# Altium integrated library Texas Instruments Power Management PWM Controller.IntLib: 1227 symbols (part 14 of 49)
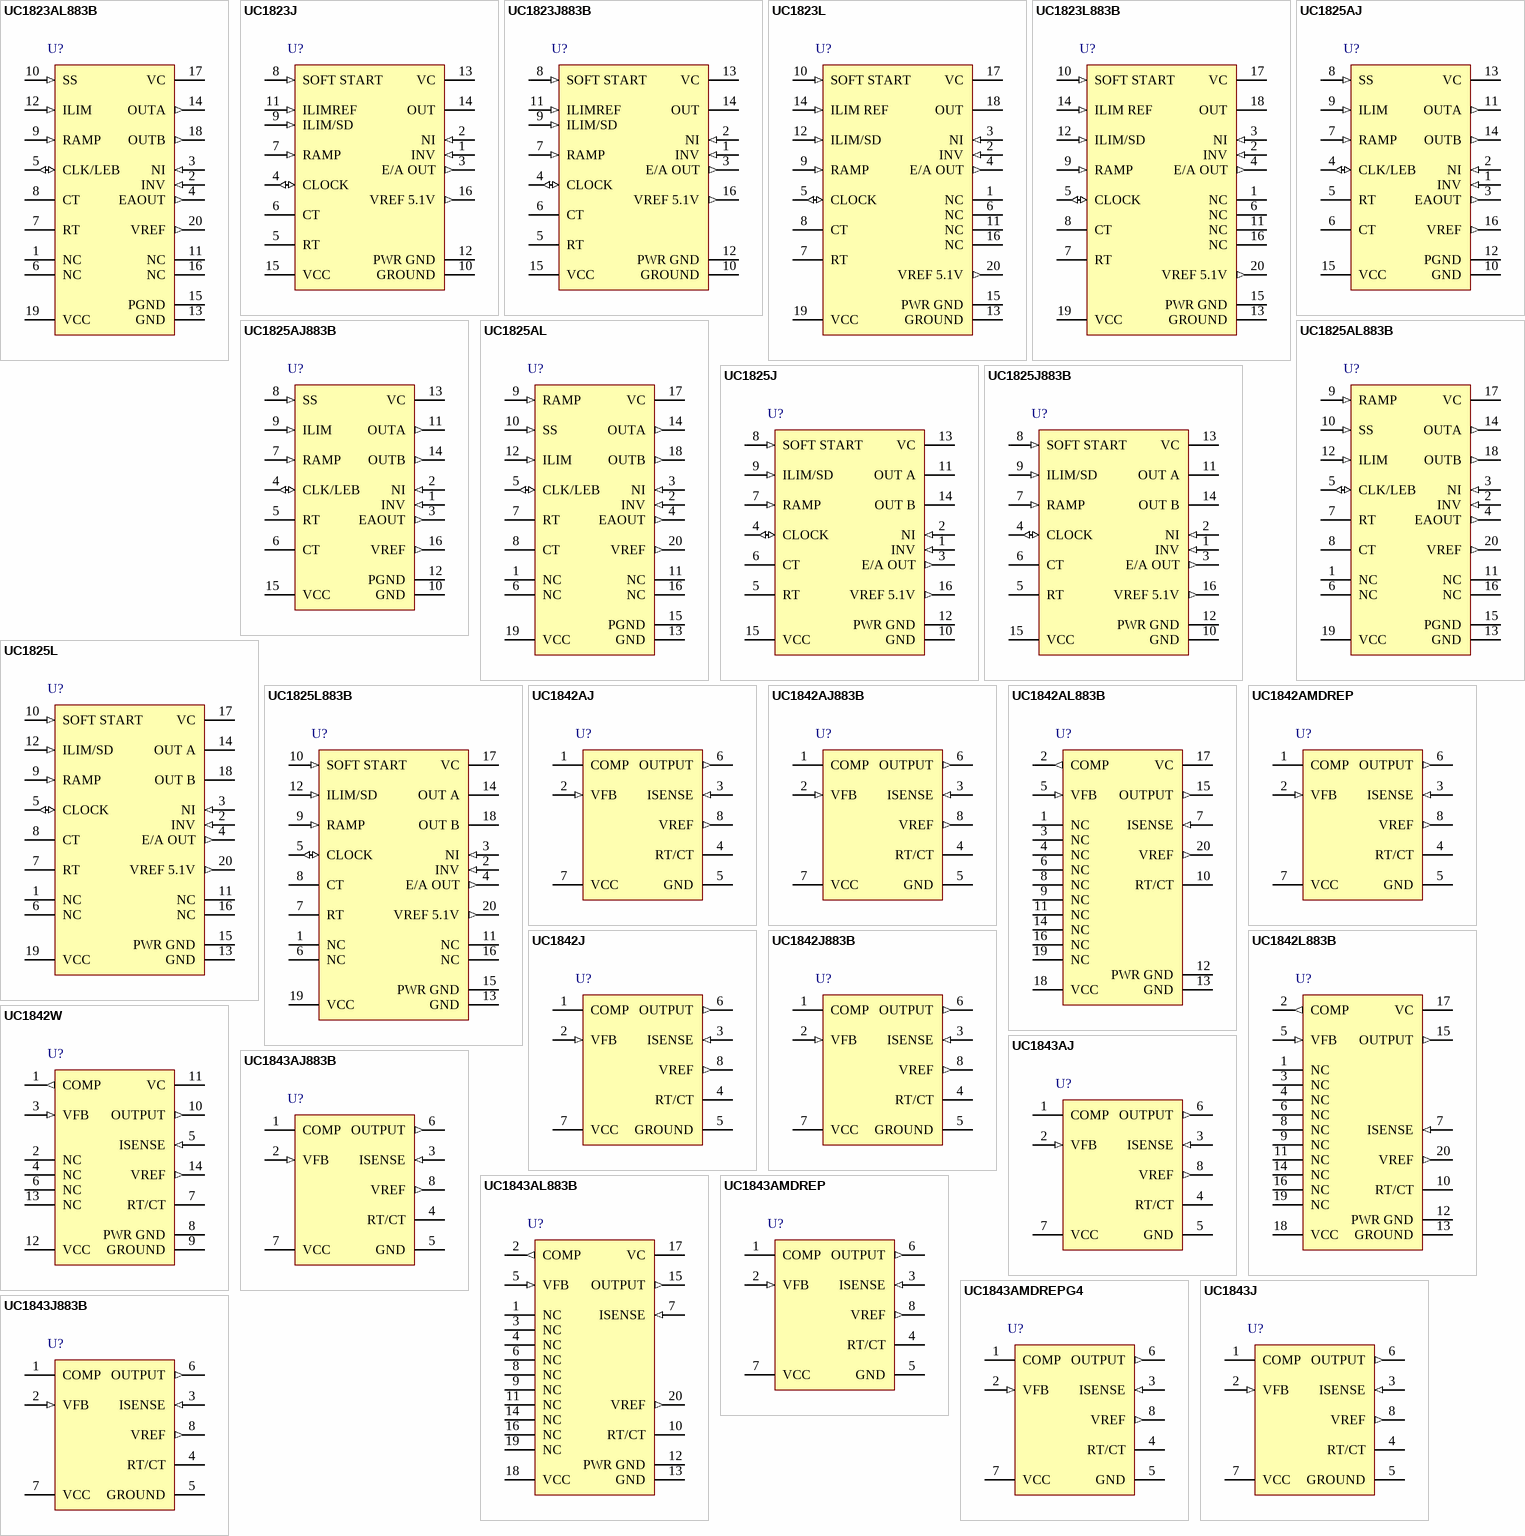
[diagram p56: symbols UC1823AL883B to UC1843J883B]

## UC1825AL
designator U?
High Speed PWM Controller with Current Control, 50 % Duty Cycle, -55 to +125 degC, 20-pin LCCC (FK); PartNumber: UC1825AL; Manufacturer: Texas Instruments; Duty Cycle(Max)(%): 50; Eco-Plan: TBD; Frequency(Max)(kHz): 1000; Rating: Military; Regulated Outputs(#): 2; Topology: Boost, Flyback, Forward, Full-Bridge, Half-Bridge, Push-Pull; UVLO Thresholds On/Off(V): 16/10; DatasheetVersion: SLUS334E; PackageVersion: revD, Jan-2011; PackageReference: FK20; PackageDescription: 20-Pin Leadless Ceramic Chip Carrier, 1.27 mm Pitch; Control Method: Current; SubFamily: PWM Controller; Mounting Technology: Surface Mount; Code_JEDEC: MS-004; ComponentLink1Description: Datasheet; ComponentLink1URL: http://www.ti.com/general/docs/lit/getliterature.tsp?genericPartNumber=UC1825A&fileType=pdf
footprint FK20_N (Leadless Chip Carrier, 20-Leads, Body 8.9x8.9mm, Pitch 1.27mm, IPC Medium Density)
footprint FK20_L (Leadless Chip Carrier, 20-Leads, Body 8.9x8.9mm, Pitch 1.27mm, IPC High Density)
footprint FK20_M (Leadless Chip Carrier, 20-Leads, Body 8.9x8.9mm, Pitch 1.27mm, IPC Low Density)
pins: 1 NC "No Connection", 2 INV (in) "Inverting input to the error amplifier", 3 NI (in) "Non-inverting input to the error amplifier", 4 EAOUT (out) "Output of the error amplifier for compensation", 5 CLK/LEB (io) "Output of the internal oscillator", 6 NC "No Connection", 7 RT "Timing resistor connection pin for oscillator frequency programming", 8 CT "Timing capacitor connection pin for oscillator frequency programming. The timing capacitor should be connected to the device ground using minimal trace length.", 9 RAMP (in) "Non-inverting input to the PWM comparator with 1.25-V internal input offset. In voltage mode operation, this serves as the input voltage feed-forward function by using the CT ramp. In peak current mode operation, this serves (See Datasheet)", 10 SS (in) "Soft-start input pin which also doubles as the maximum duty cycle clamp.", 11 NC "No Connection", 12 ILIM (in) "Input to the current limit comparator", 13 GND (power) "Analog ground return pin", 14 OUTA (out) "High current totem pole output A of the on-chip drive stage.", 15 PGND (power) "Ground return pin for the output driver stage", 16 NC "No Connection", 17 VC (power) "Power supply pin for the output stage. This pin should be bypassed with a 0.1-uF monolithic ceramic low ESL capacitor with minimal trace lengths.", 18 OUTB (out) "High current totem pole output B of the on-chip drive stage.", 19 VCC (power) "Power supply pin for the device. This pin should be bypassed with a 0.1-uF monolithic ceramic low ESL capacitor with minimal trace lengths", 20 VREF (out) "5.1-V reference. For stability, the reference should be bypassed with a 0.1-uF monolithic ceramic low ESL capacitor and minimal trace length to the ground plane."

## UC1825AL883B
designator U?
High Speed PWM Controller with Current Control, 50 % Duty Cycle, -55 to +125 degC, 20-pin LCCC (FK); PartNumber: UC1825AL883B; Manufacturer: Texas Instruments; Duty Cycle(Max)(%): 50; Eco-Plan: TBD; Frequency(Max)(kHz): 1000; Rating: Military; Regulated Outputs(#): 2; Topology: Boost, Flyback, Forward, Full-Bridge, Half-Bridge, Push-Pull; UVLO Thresholds On/Off(V): 16/10; DatasheetVersion: SLUS334E; PackageVersion: revD, Jan-2011; PackageReference: FK20; PackageDescription: 20-Pin Leadless Ceramic Chip Carrier, 1.27 mm Pitch; Control Method: Current; SubFamily: PWM Controller; Mounting Technology: Surface Mount; Code_JEDEC: MS-004; ComponentLink1Description: Datasheet; ComponentLink1URL: http://www.ti.com/general/docs/lit/getliterature.tsp?genericPartNumber=UC1825A&fileType=pdf
footprint FK20_N (Leadless Chip Carrier, 20-Leads, Body 8.9x8.9mm, Pitch 1.27mm, IPC Medium Density)
footprint FK20_L (Leadless Chip Carrier, 20-Leads, Body 8.9x8.9mm, Pitch 1.27mm, IPC High Density)
footprint FK20_M (Leadless Chip Carrier, 20-Leads, Body 8.9x8.9mm, Pitch 1.27mm, IPC Low Density)
pins: 1 NC "No Connection", 2 INV (in) "Inverting input to the error amplifier", 3 NI (in) "Non-inverting input to the error amplifier", 4 EAOUT (out) "Output of the error amplifier for compensation", 5 CLK/LEB (io) "Output of the internal oscillator", 6 NC "No Connection", 7 RT "Timing resistor connection pin for oscillator frequency programming", 8 CT "Timing capacitor connection pin for oscillator frequency programming. The timing capacitor should be connected to the device ground using minimal trace length.", 9 RAMP (in) "Non-inverting input to the PWM comparator with 1.25-V internal input offset. In voltage mode operation, this serves as the input voltage feed-forward function by using the CT ramp. In peak current mode operation, this serves (See Datasheet)", 10 SS (in) "Soft-start input pin which also doubles as the maximum duty cycle clamp.", 11 NC "No Connection", 12 ILIM (in) "Input to the current limit comparator", 13 GND (power) "Analog ground return pin", 14 OUTA (out) "High current totem pole output A of the on-chip drive stage.", 15 PGND (power) "Ground return pin for the output driver stage", 16 NC "No Connection", 17 VC (power) "Power supply pin for the output stage. This pin should be bypassed with a 0.1-uF monolithic ceramic low ESL capacitor with minimal trace lengths.", 18 OUTB (out) "High current totem pole output B of the on-chip drive stage.", 19 VCC (power) "Power supply pin for the device. This pin should be bypassed with a 0.1-uF monolithic ceramic low ESL capacitor with minimal trace lengths", 20 VREF (out) "5.1-V reference. For stability, the reference should be bypassed with a 0.1-uF monolithic ceramic low ESL capacitor and minimal trace length to the ground plane."

## UC1825J
designator U?
High Speed PWM Controller with Current Control, 50 % Duty Cycle, -55 to +125 degC, 16-pin CDIP (J); PartNumber: UC1825J; Manufacturer: Texas Instruments; Duty Cycle(Max)(%): 50; Eco-Plan: TBD; Frequency(Max)(kHz): 1000; Rating: Military; Regulated Outputs(#): 2; Topology: Boost, Flyback, Forward, Full-Bridge, Half-Bridge, Push-Pull; UVLO Thresholds On/Off(V): 9.2/8.4; DatasheetVersion: SLUS235A; PackageVersion: revF, Mar-2003; PackageReference: J16; PackageDescription: 16-Pin, Ceramic Dual In-Line Package, Row Spacing 7.62 mm, Pitch 2.54 mm; Control Method: Current; SubFamily: PWM Controller; Mounting Technology: Through Hole; ComponentLink1Description: Datasheet; ComponentLink1URL: http://www.ti.com/general/docs/lit/getliterature.tsp?genericPartNumber=UC1825&fileType=pdf
footprint J16 (DIP, 16-Leads, Row Spacing 7.62mm, Pitch 2.54mm, Body 21.3x6.9mm)
pins: 1 INV (in), 2 NI (in), 3 E/A OUT (out), 4 CLOCK (io), 5 RT, 6 CT, 7 RAMP (in), 8 SOFT START (in), 9 ILIM/SD (in), 10 GND (power), 11 OUT A (hiz), 12 PWR GND (power), 13 VC (power), 14 OUT B (hiz), 15 VCC (power), 16 VREF 5.1V (out)

## UC1825J883B
designator U?
High Speed PWM Controller with Current Control, 50 % Duty Cycle, -55 to +125 degC, 16-pin CDIP (J); PartNumber: UC1825J883B; Manufacturer: Texas Instruments; Duty Cycle(Max)(%): 50; Eco-Plan: TBD; Frequency(Max)(kHz): 1000; Rating: Military; Regulated Outputs(#): 2; Topology: Boost, Flyback, Forward, Full-Bridge, Half-Bridge, Push-Pull; UVLO Thresholds On/Off(V): 9.2/8.4; DatasheetVersion: SLUS235A; PackageVersion: revF, Mar-2003; PackageReference: J16; PackageDescription: 16-Pin, Ceramic Dual In-Line Package, Row Spacing 7.62 mm, Pitch 2.54 mm; Control Method: Current; SubFamily: PWM Controller; Mounting Technology: Through Hole; ComponentLink1Description: Datasheet; ComponentLink1URL: http://www.ti.com/general/docs/lit/getliterature.tsp?genericPartNumber=UC1825&fileType=pdf
footprint J16 (DIP, 16-Leads, Row Spacing 7.62mm, Pitch 2.54mm, Body 21.3x6.9mm)
pins: 1 INV (in), 2 NI (in), 3 E/A OUT (out), 4 CLOCK (io), 5 RT, 6 CT, 7 RAMP (in), 8 SOFT START (in), 9 ILIM/SD (in), 10 GND (power), 11 OUT A (hiz), 12 PWR GND (power), 13 VC (power), 14 OUT B (hiz), 15 VCC (power), 16 VREF 5.1V (out)

## UC1825L
designator U?
High Speed PWM Controller with Current Control, 50 % Duty Cycle, -55 to +125 degC, 20-pin LCCC (FK); PartNumber: UC1825L; Manufacturer: Texas Instruments; Duty Cycle(Max)(%): 50; Eco-Plan: TBD; Frequency(Max)(kHz): 1000; Rating: Military; Regulated Outputs(#): 2; Topology: Boost, Flyback, Forward, Full-Bridge, Half-Bridge, Push-Pull; UVLO Thresholds On/Off(V): 9.2/8.4; DatasheetVersion: SLUS235A; PackageVersion: revD, Jan-2011; PackageReference: FK20; PackageDescription: 20-Pin Leadless Ceramic Chip Carrier, 1.27 mm Pitch; Control Method: Current; SubFamily: PWM Controller; Mounting Technology: Surface Mount; Code_JEDEC: MS-004; ComponentLink1Description: Datasheet; ComponentLink1URL: http://www.ti.com/general/docs/lit/getliterature.tsp?genericPartNumber=UC1825&fileType=pdf
footprint FK20_N (Leadless Chip Carrier, 20-Leads, Body 8.9x8.9mm, Pitch 1.27mm, IPC Medium Density)
footprint FK20_L (Leadless Chip Carrier, 20-Leads, Body 8.9x8.9mm, Pitch 1.27mm, IPC High Density)
footprint FK20_M (Leadless Chip Carrier, 20-Leads, Body 8.9x8.9mm, Pitch 1.27mm, IPC Low Density)
pins: 1 NC, 2 INV (in), 3 NI (in), 4 E/A OUT (out), 5 CLOCK (io), 6 NC, 7 RT, 8 CT, 9 RAMP (in), 10 SOFT START (in), 11 NC, 12 ILIM/SD (in), 13 GND (power), 14 OUT A (hiz), 15 PWR GND (power), 16 NC, 17 VC (power), 18 OUT B (hiz), 19 VCC (power), 20 VREF 5.1V (out)

## UC1825L883B
designator U?
High Speed PWM Controller with Current Control, 50 % Duty Cycle, -55 to +125 degC, 20-pin LCCC (FK); PartNumber: UC1825L883B; Manufacturer: Texas Instruments; Duty Cycle(Max)(%): 50; Eco-Plan: TBD; Frequency(Max)(kHz): 1000; Rating: Military; Regulated Outputs(#): 2; Topology: Boost, Flyback, Forward, Full-Bridge, Half-Bridge, Push-Pull; UVLO Thresholds On/Off(V): 9.2/8.4; DatasheetVersion: SLUS235A; PackageVersion: revD, Jan-2011; PackageReference: FK20; PackageDescription: 20-Pin Leadless Ceramic Chip Carrier, 1.27 mm Pitch; Control Method: Current; SubFamily: PWM Controller; Mounting Technology: Surface Mount; Code_JEDEC: MS-004; ComponentLink1Description: Datasheet; ComponentLink1URL: http://www.ti.com/general/docs/lit/getliterature.tsp?genericPartNumber=UC1825&fileType=pdf
footprint FK20_N (Leadless Chip Carrier, 20-Leads, Body 8.9x8.9mm, Pitch 1.27mm, IPC Medium Density)
footprint FK20_L (Leadless Chip Carrier, 20-Leads, Body 8.9x8.9mm, Pitch 1.27mm, IPC High Density)
footprint FK20_M (Leadless Chip Carrier, 20-Leads, Body 8.9x8.9mm, Pitch 1.27mm, IPC Low Density)
pins: 1 NC, 2 INV (in), 3 NI (in), 4 E/A OUT (out), 5 CLOCK (io), 6 NC, 7 RT, 8 CT, 9 RAMP (in), 10 SOFT START (in), 11 NC, 12 ILIM/SD (in), 13 GND (power), 14 OUT A (hiz), 15 PWR GND (power), 16 NC, 17 VC (power), 18 OUT B (hiz), 19 VCC (power), 20 VREF 5.1V (out)

## UC1842AJ
designator U?
PWM Controller with Current Control, 100 % Duty Cycle, -55 to +125 degC, 8-pin CDIP (JG); PartNumber: UC1842AJ; Manufacturer: Texas Instruments; Duty Cycle(Max)(%): 100; Eco-Plan: TBD; Frequency(Max)(kHz): 450; Rating: Military; Regulated Outputs(#): 1; Topology: Boost, Flyback, Forward; UVLO Thresholds On/Off(V): 16/10; DatasheetVersion: SLUS224C; PackageVersion: revC, Aug-1996; PackageReference: JG8; PackageDescription: 8-Pin Ceramic Dual-In-Line Package, Row Spacing 7.62 mm, Pitch 2.54 mm; Control Method: Current; SubFamily: PWM Controller; Mounting Technology: Through Hole; ComponentLink1Description: Datasheet; ComponentLink1URL: http://www.ti.com/general/docs/lit/getliterature.tsp?genericPartNumber=UC1842A&fileType=pdf
footprint JG8 (DIP, 8-Leads, Row Spacing 7.62mm, Pitch 2.54mm, Body 9.6x6.7mm)
pins: 1 COMP, 2 VFB (in), 3 ISENSE (in), 4 RT/CT, 5 GND (power), 6 OUTPUT (out), 7 VCC (power), 8 VREF (out)

## UC1842AJ883B
designator U?
PWM Controller with Current Control, 100 % Duty Cycle, -55 to +125 degC, 8-pin CDIP (JG); PartNumber: UC1842AJ883B; Manufacturer: Texas Instruments; Duty Cycle(Max)(%): 100; Eco-Plan: TBD; Frequency(Max)(kHz): 450; Rating: Military; Regulated Outputs(#): 1; Topology: Boost, Flyback, Forward; UVLO Thresholds On/Off(V): 16/10; DatasheetVersion: SLUS224C; PackageVersion: revC, Aug-1996; PackageReference: JG8; PackageDescription: 8-Pin Ceramic Dual-In-Line Package, Row Spacing 7.62 mm, Pitch 2.54 mm; Control Method: Current; SubFamily: PWM Controller; Mounting Technology: Through Hole; ComponentLink1Description: Datasheet; ComponentLink1URL: http://www.ti.com/general/docs/lit/getliterature.tsp?genericPartNumber=UC1842A&fileType=pdf
footprint JG8 (DIP, 8-Leads, Row Spacing 7.62mm, Pitch 2.54mm, Body 9.6x6.7mm)
pins: 1 COMP, 2 VFB (in), 3 ISENSE (in), 4 RT/CT, 5 GND (power), 6 OUTPUT (out), 7 VCC (power), 8 VREF (out)

## UC1842AL883B
designator U?
PWM Controller with Current Control, 100 % Duty Cycle, -55 to +125 degC, 20-pin LCCC (FK); PartNumber: UC1842AL883B; Manufacturer: Texas Instruments; Duty Cycle(Max)(%): 100; Eco-Plan: TBD; Frequency(Max)(kHz): 450; Rating: Military; Regulated Outputs(#): 1; Topology: Boost, Flyback, Forward; UVLO Thresholds On/Off(V): 16/10; DatasheetVersion: SLUS224C; PackageVersion: revD, Jan-2011; PackageReference: FK20; PackageDescription: 20-Pin Leadless Ceramic Chip Carrier, 1.27 mm Pitch; Control Method: Current; SubFamily: PWM Controller; Mounting Technology: Surface Mount; Code_JEDEC: MS-004; ComponentLink1Description: Datasheet; ComponentLink1URL: http://www.ti.com/general/docs/lit/getliterature.tsp?genericPartNumber=UC1842A&fileType=pdf
footprint FK20_N (Leadless Chip Carrier, 20-Leads, Body 8.9x8.9mm, Pitch 1.27mm, IPC Medium Density)
footprint FK20_L (Leadless Chip Carrier, 20-Leads, Body 8.9x8.9mm, Pitch 1.27mm, IPC High Density)
footprint FK20_M (Leadless Chip Carrier, 20-Leads, Body 8.9x8.9mm, Pitch 1.27mm, IPC Low Density)
pins: 1 NC, 2 COMP (out), 3 NC, 4 NC, 5 VFB (in), 6 NC, 7 ISENSE (in), 8 NC, 9 NC, 10 RT/CT, 11 NC, 12 PWR GND (power), 13 GND (power), 14 NC, 15 OUTPUT (out), 16 NC, 17 VC (power), 18 VCC (power), 19 NC, 20 VREF (out)

## UC1842AMDREP
designator U?
PWM Controller with Current Control, 100 % Duty Cycle, -55 to +125 degC, 8-pin SOIC (D), Green (RoHS & no Sb/Br); PartNumber: UC1842AMDREP; Manufacturer: Texas Instruments; Duty Cycle(Max)(%): 100; Frequency(Max)(kHz): 500; Rating: HiRel Enhanced Product; Regulated Outputs(#): 1; UVLO Thresholds On/Off(V): 16/10; DatasheetVersion: SGLS134C; PackageVersion: revM, Jun-2011; PackageReference: D8; PackageDescription: 8-Pin Plastic Small Outline Integrated Circuit, 4.9 x 3.9 mm, Pitch 1.27 mm Pitch; Supplier 1: Digi-Key; Supplier Part Number 1: 296-18181-2-ND; Supplier 2: Digi-Key; Supplier Part Number 2: 296-18181-1-ND; Supplier 3: Digi-Key; Supplier Part Number 3: 296-18181-6-ND; Supplier 4: Farnell; Supplier Part Number 4: 1755514; Supplier 5: Newark; Supplier Part Number 5: 46M1387; Supplier 6: Mouser; Supplier Part Number 6: 595-UC1842AMDREP; Control Method: Current; Eco-Plan: Green (RoHS & no Sb/Br); SubFamily: PWM Controller; Mounting Technology: Surface Mount; Code_JEDEC: MS-012AA; ComponentLink1Description: Datasheet; ComponentLink1URL: http://www.ti.com/general/docs/lit/getliterature.tsp?genericPartNumber=UC1842A-EP&fileType=pdf
footprint D8_N (SOIC, 8-Leads, Body 4.9x3.9mm, Pitch 1.27mm, IPC Medium Density)
footprint D8_L (SOIC, 8-Leads, Body 4.9x3.9mm, Pitch 1.27mm, IPC High Density)
footprint D8_M (SOIC, 8-Leads, Body 4.9x3.9mm, Pitch 1.27mm, IPC Low Density)
pins: 1 COMP, 2 VFB (in), 3 ISENSE (in), 4 RT/CT, 5 GND (power), 6 OUTPUT (out), 7 VCC (power), 8 VREF (out)

## UC1842J
designator U?
PWM Controller with Current Control, 100 % Duty Cycle, -55 to +125 degC, 8-pin CDIP (JG); PartNumber: UC1842J; Manufacturer: Texas Instruments; Duty Cycle(Max)(%): 100; Eco-Plan: TBD; Frequency(Max)(kHz): 450; Rating: Military; Regulated Outputs(#): 1; Topology: Boost, Flyback, Forward; UVLO Thresholds On/Off(V): 16/10; DatasheetVersion: SLUS223C; PackageVersion: revC, Aug-1996; PackageReference: JG8; PackageDescription: 8-Pin Ceramic Dual-In-Line Package, Row Spacing 7.62 mm, Pitch 2.54 mm; Control Method: Current; SubFamily: PWM Controller; Mounting Technology: Through Hole; ComponentLink1Description: Datasheet; ComponentLink1URL: http://www.ti.com/general/docs/lit/getliterature.tsp?genericPartNumber=UC1842&fileType=pdf
footprint JG8 (DIP, 8-Leads, Row Spacing 7.62mm, Pitch 2.54mm, Body 9.6x6.7mm)
pins: 1 COMP, 2 VFB (in), 3 ISENSE (in), 4 RT/CT, 5 GROUND (power), 6 OUTPUT (out), 7 VCC (power), 8 VREF (out)

## UC1842J883B
designator U?
PWM Controller with Current Control, 100 % Duty Cycle, -55 to +125 degC, 8-pin CDIP (JG); PartNumber: UC1842J883B; Manufacturer: Texas Instruments; Duty Cycle(Max)(%): 100; Eco-Plan: TBD; Frequency(Max)(kHz): 450; Rating: Military; Regulated Outputs(#): 1; Topology: Boost, Flyback, Forward; UVLO Thresholds On/Off(V): 16/10; DatasheetVersion: SLUS223C; PackageVersion: revC, Aug-1996; PackageReference: JG8; PackageDescription: 8-Pin Ceramic Dual-In-Line Package, Row Spacing 7.62 mm, Pitch 2.54 mm; Control Method: Current; SubFamily: PWM Controller; Mounting Technology: Through Hole; ComponentLink1Description: Datasheet; ComponentLink1URL: http://www.ti.com/general/docs/lit/getliterature.tsp?genericPartNumber=UC1842&fileType=pdf
footprint JG8 (DIP, 8-Leads, Row Spacing 7.62mm, Pitch 2.54mm, Body 9.6x6.7mm)
pins: 1 COMP, 2 VFB (in), 3 ISENSE (in), 4 RT/CT, 5 GROUND (power), 6 OUTPUT (out), 7 VCC (power), 8 VREF (out)

## UC1842L883B
designator U?
PWM Controller with Current Control, 100 % Duty Cycle, -55 to +125 degC, 20-pin LCCC (FK); PartNumber: UC1842L883B; Manufacturer: Texas Instruments; Duty Cycle(Max)(%): 100; Eco-Plan: TBD; Frequency(Max)(kHz): 450; Rating: Military; Regulated Outputs(#): 1; Topology: Boost, Flyback, Forward; UVLO Thresholds On/Off(V): 16/10; DatasheetVersion: SLUS223C; PackageVersion: revD, Jan-2011; PackageReference: FK20; PackageDescription: 20-Pin Leadless Ceramic Chip Carrier, 1.27 mm Pitch; Control Method: Current; SubFamily: PWM Controller; Mounting Technology: Surface Mount; Code_JEDEC: MS-004; ComponentLink1Description: Datasheet; ComponentLink1URL: http://www.ti.com/general/docs/lit/getliterature.tsp?genericPartNumber=UC1842&fileType=pdf
footprint FK20_N (Leadless Chip Carrier, 20-Leads, Body 8.9x8.9mm, Pitch 1.27mm, IPC Medium Density)
footprint FK20_L (Leadless Chip Carrier, 20-Leads, Body 8.9x8.9mm, Pitch 1.27mm, IPC High Density)
footprint FK20_M (Leadless Chip Carrier, 20-Leads, Body 8.9x8.9mm, Pitch 1.27mm, IPC Low Density)
pins: 1 NC, 2 COMP (out), 3 NC, 4 NC, 5 VFB (in), 6 NC, 7 ISENSE (in), 8 NC, 9 NC, 10 RT/CT, 11 NC, 12 PWR GND (power), 13 GROUND (power), 14 NC, 15 OUTPUT (out), 16 NC, 17 VC (power), 18 VCC (power), 19 NC, 20 VREF (out)

## UC1842W
designator U?
PWM Controller with Current Control, 100 % Duty Cycle, -55 to +125 degC, 14-pin CFP (W); PartNumber: UC1842W; Manufacturer: Texas Instruments; Duty Cycle(Max)(%): 100; Eco-Plan: TBD; Frequency(Max)(kHz): 450; Rating: Military; Regulated Outputs(#): 1; Topology: Boost, Flyback, Forward; UVLO Thresholds On/Off(V): 16/10; DatasheetVersion: SLUS223C; PackageVersion: revD, Jul-2003; PackageReference: W14; PackageDescription: 14-Lead Ceramic Dual Flatpack, Body 9.9 x 6.6 mm (LxW max), Pitch 1.27 mm; Control Method: Current; SubFamily: PWM Controller; Mounting Technology: Surface Mount; Code_JEDEC: MO-092AB; ComponentLink1Description: Datasheet; ComponentLink1URL: http://www.ti.com/general/docs/lit/getliterature.tsp?genericPartNumber=UC1842&fileType=pdf
footprint W14 (DFP, 14 Leads, Body 9.2x6.3mm, Pitch 1.27mm, Gullwing Leadform)
pins: 1 COMP (out), 2 NC, 3 VFB (in), 4 NC, 5 ISENSE (in), 6 NC, 7 RT/CT, 8 PWR GND (power), 9 GROUND (power), 10 OUTPUT (out), 11 VC (power), 12 VCC (power), 13 NC, 14 VREF (out)

## UC1843AJ
designator U?
PWM Controller with Current Control, 100 % Duty Cycle, -55 to +125 degC, 8-pin CDIP (JG); PartNumber: UC1843AJ; Manufacturer: Texas Instruments; Duty Cycle(Max)(%): 100; Eco-Plan: TBD; Frequency(Max)(kHz): 450; Rating: Military; Regulated Outputs(#): 1; Topology: Boost, Flyback, Forward; UVLO Thresholds On/Off(V): 8.4/7.6; DatasheetVersion: SLUS224C; PackageVersion: revC, Aug-1996; PackageReference: JG8; PackageDescription: 8-Pin Ceramic Dual-In-Line Package, Row Spacing 7.62 mm, Pitch 2.54 mm; Control Method: Current; SubFamily: PWM Controller; Mounting Technology: Through Hole; ComponentLink1Description: Datasheet; ComponentLink1URL: http://www.ti.com/general/docs/lit/getliterature.tsp?genericPartNumber=UC1843A&fileType=pdf
footprint JG8 (DIP, 8-Leads, Row Spacing 7.62mm, Pitch 2.54mm, Body 9.6x6.7mm)
pins: 1 COMP, 2 VFB (in), 3 ISENSE (in), 4 RT/CT, 5 GND (power), 6 OUTPUT (out), 7 VCC (power), 8 VREF (out)

## UC1843AJ883B
designator U?
PWM Controller with Current Control, 100 % Duty Cycle, -55 to +125 degC, 8-pin CDIP (JG); PartNumber: UC1843AJ883B; Manufacturer: Texas Instruments; Duty Cycle(Max)(%): 100; Eco-Plan: TBD; Frequency(Max)(kHz): 450; Rating: Military; Regulated Outputs(#): 1; Topology: Boost, Flyback, Forward; UVLO Thresholds On/Off(V): 8.4/7.6; DatasheetVersion: SLUS224C; PackageVersion: revC, Aug-1996; PackageReference: JG8; PackageDescription: 8-Pin Ceramic Dual-In-Line Package, Row Spacing 7.62 mm, Pitch 2.54 mm; Control Method: Current; SubFamily: PWM Controller; Mounting Technology: Through Hole; ComponentLink1Description: Datasheet; ComponentLink1URL: http://www.ti.com/general/docs/lit/getliterature.tsp?genericPartNumber=UC1843A&fileType=pdf
footprint JG8 (DIP, 8-Leads, Row Spacing 7.62mm, Pitch 2.54mm, Body 9.6x6.7mm)
pins: 1 COMP, 2 VFB (in), 3 ISENSE (in), 4 RT/CT, 5 GND (power), 6 OUTPUT (out), 7 VCC (power), 8 VREF (out)

## UC1843AL883B
designator U?
PWM Controller with Current Control, 100 % Duty Cycle, -55 to +125 degC, 20-pin LCCC (FK); PartNumber: UC1843AL883B; Manufacturer: Texas Instruments; Duty Cycle(Max)(%): 100; Eco-Plan: TBD; Frequency(Max)(kHz): 450; Rating: Military; Regulated Outputs(#): 1; Topology: Boost, Flyback, Forward; UVLO Thresholds On/Off(V): 8.4/7.6; DatasheetVersion: SLUS224C; PackageVersion: revD, Jan-2011; PackageReference: FK20; PackageDescription: 20-Pin Leadless Ceramic Chip Carrier, 1.27 mm Pitch; Control Method: Current; SubFamily: PWM Controller; Mounting Technology: Surface Mount; Code_JEDEC: MS-004; ComponentLink1Description: Datasheet; ComponentLink1URL: http://www.ti.com/general/docs/lit/getliterature.tsp?genericPartNumber=UC1843A&fileType=pdf
footprint FK20_N (Leadless Chip Carrier, 20-Leads, Body 8.9x8.9mm, Pitch 1.27mm, IPC Medium Density)
footprint FK20_L (Leadless Chip Carrier, 20-Leads, Body 8.9x8.9mm, Pitch 1.27mm, IPC High Density)
footprint FK20_M (Leadless Chip Carrier, 20-Leads, Body 8.9x8.9mm, Pitch 1.27mm, IPC Low Density)
pins: 1 NC, 2 COMP (out), 3 NC, 4 NC, 5 VFB (in), 6 NC, 7 ISENSE (in), 8 NC, 9 NC, 10 RT/CT, 11 NC, 12 PWR GND (power), 13 GND (power), 14 NC, 15 OUTPUT (out), 16 NC, 17 VC (power), 18 VCC (power), 19 NC, 20 VREF (out)

## UC1843AMDREP
designator U?
PWM Controller with Current Control, 100 % Duty Cycle, -55 to +125 degC, 8-pin SOIC (D), Green (RoHS & no Sb/Br); PartNumber: UC1843AMDREP; Manufacturer: Texas Instruments; Duty Cycle(Max)(%): 100; Frequency(Max)(kHz): 500; Rating: HiRel Enhanced Product; Regulated Outputs(#): 1; UVLO Thresholds On/Off(V): 8.5/7.9; DatasheetVersion: SGLS134C; PackageVersion: revM, Jun-2011; PackageReference: D8; PackageDescription: 8-Pin Plastic Small Outline Integrated Circuit, 4.9 x 3.9 mm, Pitch 1.27 mm Pitch; Supplier 1: Arrow; Supplier Part Number 1: 31966364S6768761N2415; Supplier 2: Digi-Key; Supplier Part Number 2: 296-18182-2-ND; Supplier 3: Digi-Key; Supplier Part Number 3: 296-18182-1-ND; Supplier 4: Digi-Key; Supplier Part Number 4: 296-18182-6-ND; Supplier 5: Newark; Supplier Part Number 5: 46M1388; Supplier 6: Mouser; Supplier Part Number 6: 595-UC1843AMDREP; Control Method: Current; Eco-Plan: Green (RoHS & no Sb/Br); SubFamily: PWM Controller; Mounting Technology: Surface Mount; Code_JEDEC: MS-012AA; ComponentLink1Description: Datasheet; ComponentLink1URL: http://www.ti.com/general/docs/lit/getliterature.tsp?genericPartNumber=UC1843A-EP&fileType=pdf
footprint D8_N (SOIC, 8-Leads, Body 4.9x3.9mm, Pitch 1.27mm, IPC Medium Density)
footprint D8_L (SOIC, 8-Leads, Body 4.9x3.9mm, Pitch 1.27mm, IPC High Density)
footprint D8_M (SOIC, 8-Leads, Body 4.9x3.9mm, Pitch 1.27mm, IPC Low Density)
pins: 1 COMP, 2 VFB (in), 3 ISENSE (in), 4 RT/CT, 5 GND (power), 6 OUTPUT (out), 7 VCC (power), 8 VREF (out)

## UC1843AMDREPG4
designator U?
PWM Controller with Current Control, 100 % Duty Cycle, -55 to +125 degC, 8-pin SOIC (D), Green (RoHS & no Sb/Br); PartNumber: UC1843AMDREPG4; Manufacturer: Texas Instruments; Duty Cycle(Max)(%): 100; Frequency(Max)(kHz): 500; Rating: HiRel Enhanced Product; Regulated Outputs(#): 1; UVLO Thresholds On/Off(V): 8.5/7.9; DatasheetVersion: SGLS134C; PackageVersion: revM, Jun-2011; PackageReference: D8; PackageDescription: 8-Pin Plastic Small Outline Integrated Circuit, 4.9 x 3.9 mm, Pitch 1.27 mm Pitch; Supplier 1: Digi-Key; Supplier Part Number 1: UC1843AMDREPG4-ND; Supplier 2: Mouser; Supplier Part Number 2: 595-UC1843AMDREPG4; Control Method: Current; Eco-Plan: Green (RoHS & no Sb/Br); SubFamily: PWM Controller; Mounting Technology: Surface Mount; Code_JEDEC: MS-012AA; ComponentLink1Description: Datasheet; ComponentLink1URL: http://www.ti.com/general/docs/lit/getliterature.tsp?genericPartNumber=UC1843A-EP&fileType=pdf
footprint D8_N (SOIC, 8-Leads, Body 4.9x3.9mm, Pitch 1.27mm, IPC Medium Density)
footprint D8_L (SOIC, 8-Leads, Body 4.9x3.9mm, Pitch 1.27mm, IPC High Density)
footprint D8_M (SOIC, 8-Leads, Body 4.9x3.9mm, Pitch 1.27mm, IPC Low Density)
pins: 1 COMP, 2 VFB (in), 3 ISENSE (in), 4 RT/CT, 5 GND (power), 6 OUTPUT (out), 7 VCC (power), 8 VREF (out)

## UC1843J
designator U?
PWM Controller with Current Control, 100 % Duty Cycle, -55 to +125 degC, 8-pin CDIP (JG); PartNumber: UC1843J; Manufacturer: Texas Instruments; Duty Cycle(Max)(%): 100; Eco-Plan: TBD; Frequency(Max)(kHz): 450; Rating: Military; Regulated Outputs(#): 1; Topology: Boost, Flyback, Forward; UVLO Thresholds On/Off(V): 8.4/7.6; DatasheetVersion: SLUS223C; PackageVersion: revC, Aug-1996; PackageReference: JG8; PackageDescription: 8-Pin Ceramic Dual-In-Line Package, Row Spacing 7.62 mm, Pitch 2.54 mm; Control Method: Current; SubFamily: PWM Controller; Mounting Technology: Through Hole; ComponentLink1Description: Datasheet; ComponentLink1URL: http://www.ti.com/general/docs/lit/getliterature.tsp?genericPartNumber=UC1843&fileType=pdf
footprint JG8 (DIP, 8-Leads, Row Spacing 7.62mm, Pitch 2.54mm, Body 9.6x6.7mm)
pins: 1 COMP, 2 VFB (in), 3 ISENSE (in), 4 RT/CT, 5 GROUND (power), 6 OUTPUT (out), 7 VCC (power), 8 VREF (out)

## UC1843J883B
designator U?
PWM Controller with Current Control, 100 % Duty Cycle, -55 to +125 degC, 8-pin CDIP (JG); PartNumber: UC1843J883B; Manufacturer: Texas Instruments; Duty Cycle(Max)(%): 100; Eco-Plan: TBD; Frequency(Max)(kHz): 450; Rating: Military; Regulated Outputs(#): 1; Topology: Boost, Flyback, Forward; UVLO Thresholds On/Off(V): 8.4/7.6; DatasheetVersion: SLUS223C; PackageVersion: revC, Aug-1996; PackageReference: JG8; PackageDescription: 8-Pin Ceramic Dual-In-Line Package, Row Spacing 7.62 mm, Pitch 2.54 mm; Control Method: Current; SubFamily: PWM Controller; Mounting Technology: Through Hole; ComponentLink1Description: Datasheet; ComponentLink1URL: http://www.ti.com/general/docs/lit/getliterature.tsp?genericPartNumber=UC1843&fileType=pdf
footprint JG8 (DIP, 8-Leads, Row Spacing 7.62mm, Pitch 2.54mm, Body 9.6x6.7mm)
pins: 1 COMP, 2 VFB (in), 3 ISENSE (in), 4 RT/CT, 5 GROUND (power), 6 OUTPUT (out), 7 VCC (power), 8 VREF (out)

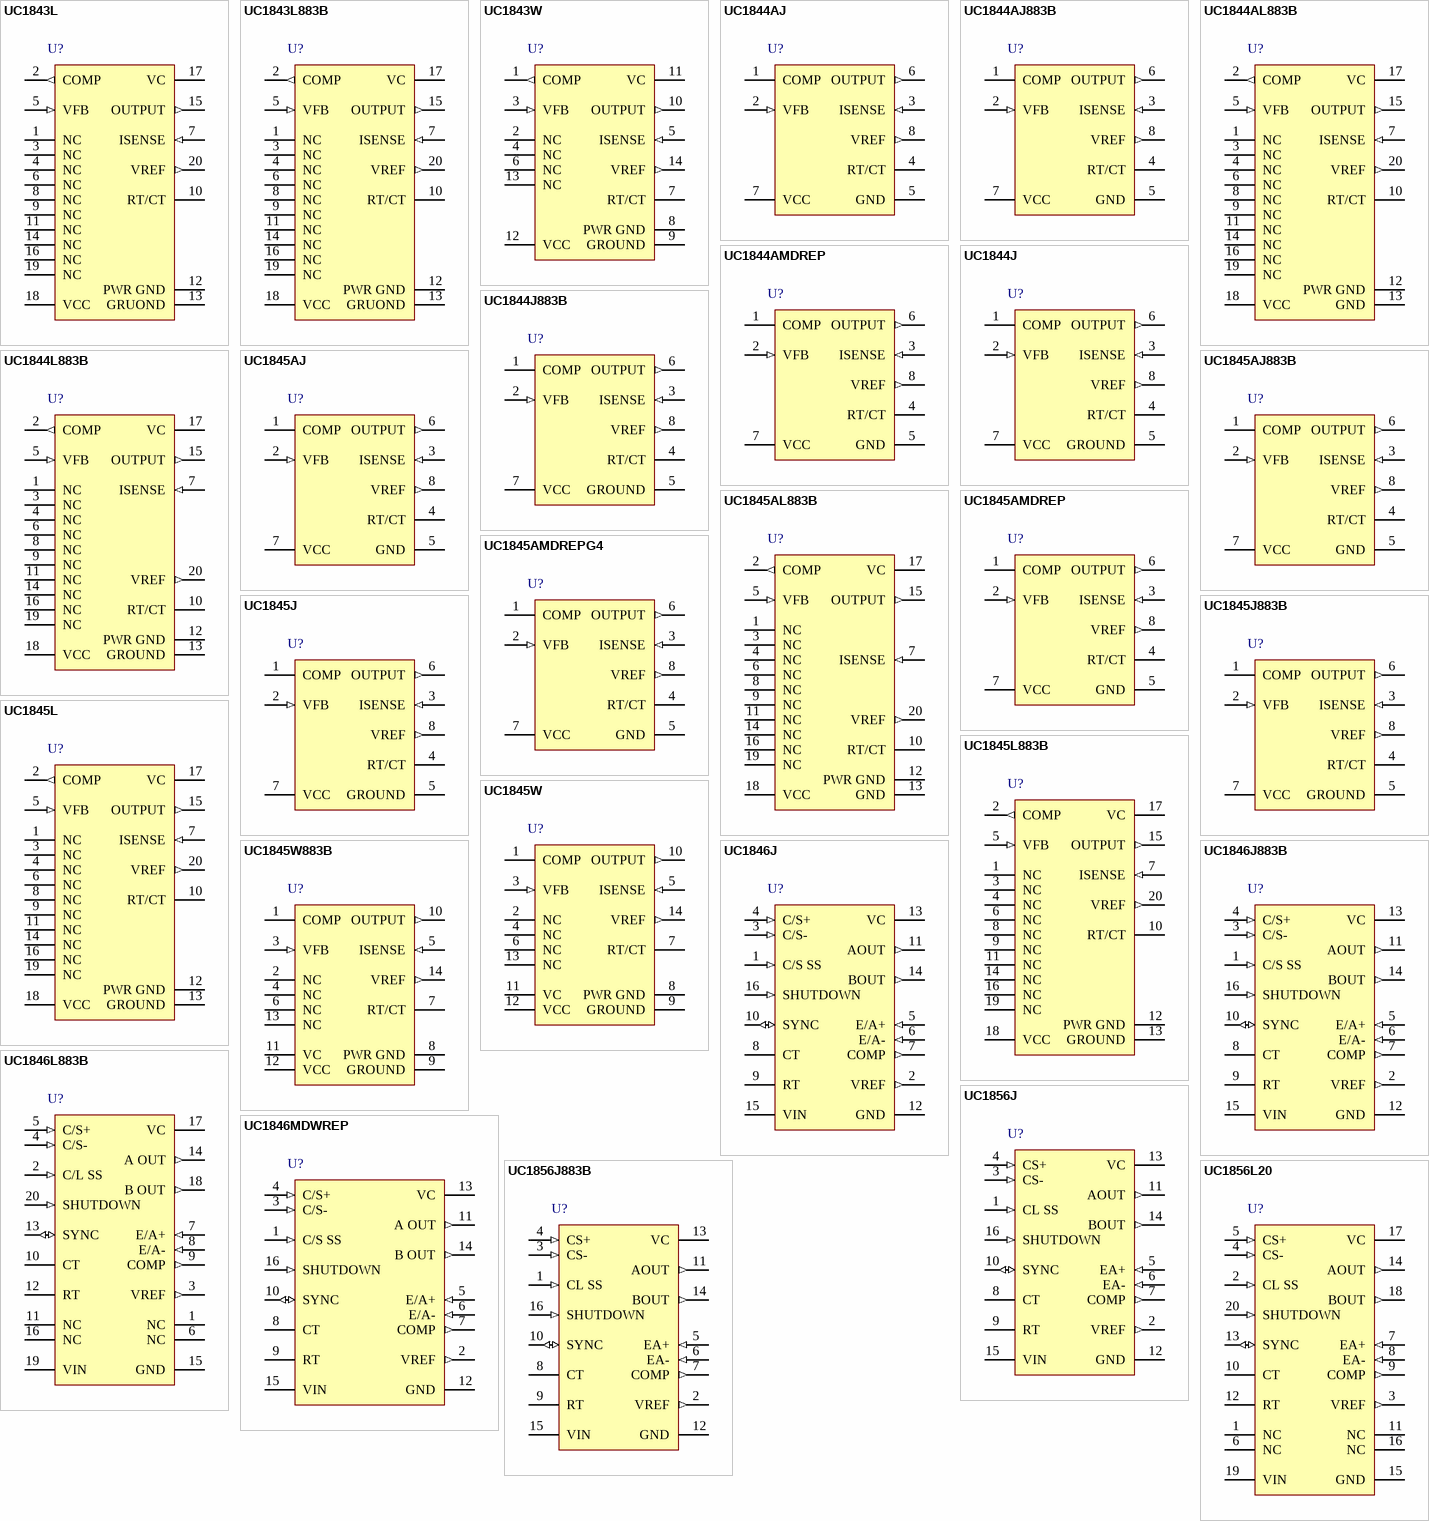
[diagram p15: symbols UC1843L to UC1856L20]

## UC1843L
designator U?
PWM Controller with Current Control, 100 % Duty Cycle, -55 to +125 degC, 20-pin LCCC (FK); PartNumber: UC1843L; Manufacturer: Texas Instruments; Duty Cycle(Max)(%): 100; Eco-Plan: TBD; Frequency(Max)(kHz): 450; Rating: Military; Regulated Outputs(#): 1; Topology: Boost, Flyback, Forward; UVLO Thresholds On/Off(V): 8.4/7.6; DatasheetVersion: SLUS223C; PackageVersion: revD, Jan-2011; PackageReference: FK20; PackageDescription: 20-Pin Leadless Ceramic Chip Carrier, 1.27 mm Pitch; Control Method: Current; SubFamily: PWM Controller; Mounting Technology: Surface Mount; Code_JEDEC: MS-004; ComponentLink1Description: Datasheet; ComponentLink1URL: http://www.ti.com/general/docs/lit/getliterature.tsp?genericPartNumber=UC1843&fileType=pdf
footprint FK20_N (Leadless Chip Carrier, 20-Leads, Body 8.9x8.9mm, Pitch 1.27mm, IPC Medium Density)
footprint FK20_L (Leadless Chip Carrier, 20-Leads, Body 8.9x8.9mm, Pitch 1.27mm, IPC High Density)
footprint FK20_M (Leadless Chip Carrier, 20-Leads, Body 8.9x8.9mm, Pitch 1.27mm, IPC Low Density)
pins: 1 NC, 2 COMP (out), 3 NC, 4 NC, 5 VFB (in), 6 NC, 7 ISENSE (in), 8 NC, 9 NC, 10 RT/CT, 11 NC, 12 PWR GND (power), 13 GRUOND (power), 14 NC, 15 OUTPUT (out), 16 NC, 17 VC (power), 18 VCC (power), 19 NC, 20 VREF (out)

## UC1843L883B
designator U?
PWM Controller with Current Control, 100 % Duty Cycle, -55 to +125 degC, 20-pin LCCC (FK); PartNumber: UC1843L883B; Manufacturer: Texas Instruments; Duty Cycle(Max)(%): 100; Eco-Plan: TBD; Frequency(Max)(kHz): 450; Rating: Military; Regulated Outputs(#): 1; Topology: Boost, Flyback, Forward; UVLO Thresholds On/Off(V): 8.4/7.6; DatasheetVersion: SLUS223C; PackageVersion: revD, Jan-2011; PackageReference: FK20; PackageDescription: 20-Pin Leadless Ceramic Chip Carrier, 1.27 mm Pitch; Control Method: Current; SubFamily: PWM Controller; Mounting Technology: Surface Mount; Code_JEDEC: MS-004; ComponentLink1Description: Datasheet; ComponentLink1URL: http://www.ti.com/general/docs/lit/getliterature.tsp?genericPartNumber=UC1843&fileType=pdf
footprint FK20_N (Leadless Chip Carrier, 20-Leads, Body 8.9x8.9mm, Pitch 1.27mm, IPC Medium Density)
footprint FK20_L (Leadless Chip Carrier, 20-Leads, Body 8.9x8.9mm, Pitch 1.27mm, IPC High Density)
footprint FK20_M (Leadless Chip Carrier, 20-Leads, Body 8.9x8.9mm, Pitch 1.27mm, IPC Low Density)
pins: 1 NC, 2 COMP (out), 3 NC, 4 NC, 5 VFB (in), 6 NC, 7 ISENSE (in), 8 NC, 9 NC, 10 RT/CT, 11 NC, 12 PWR GND (power), 13 GRUOND (power), 14 NC, 15 OUTPUT (out), 16 NC, 17 VC (power), 18 VCC (power), 19 NC, 20 VREF (out)

## UC1843W
designator U?
PWM Controller with Current Control, 100 % Duty Cycle, -55 to +125 degC, 14-pin CFP (W); PartNumber: UC1843W; Manufacturer: Texas Instruments; Duty Cycle(Max)(%): 100; Eco-Plan: TBD; Frequency(Max)(kHz): 450; Rating: Military; Regulated Outputs(#): 1; Topology: Boost, Flyback, Forward; UVLO Thresholds On/Off(V): 8.4/7.6; DatasheetVersion: SLUS223C; PackageVersion: revD, Jul-2003; PackageReference: W14; PackageDescription: 14-Lead Ceramic Dual Flatpack, Body 9.9 x 6.6 mm (LxW max), Pitch 1.27 mm; Control Method: Current; SubFamily: PWM Controller; Mounting Technology: Surface Mount; Code_JEDEC: MO-092AB; ComponentLink1Description: Datasheet; ComponentLink1URL: http://www.ti.com/general/docs/lit/getliterature.tsp?genericPartNumber=UC1843&fileType=pdf
footprint W14 (DFP, 14 Leads, Body 9.2x6.3mm, Pitch 1.27mm, Gullwing Leadform)
pins: 1 COMP (out), 2 NC, 3 VFB (in), 4 NC, 5 ISENSE (in), 6 NC, 7 RT/CT, 8 PWR GND (power), 9 GROUND (power), 10 OUTPUT (out), 11 VC (power), 12 VCC (power), 13 NC, 14 VREF (out)

## UC1844AJ
designator U?
PWM Controller with Current Control, 50 % Duty Cycle, -55 to +125 degC, 8-pin CDIP (JG); PartNumber: UC1844AJ; Manufacturer: Texas Instruments; Duty Cycle(Max)(%): 50; Eco-Plan: TBD; Frequency(Max)(kHz): 450; Rating: Military; Regulated Outputs(#): 1; Topology: Boost, Flyback, Forward; UVLO Thresholds On/Off(V): 16/10; DatasheetVersion: SLUS224C; PackageVersion: revC, Aug-1996; PackageReference: JG8; PackageDescription: 8-Pin Ceramic Dual-In-Line Package, Row Spacing 7.62 mm, Pitch 2.54 mm; Control Method: Current; SubFamily: PWM Controller; Mounting Technology: Through Hole; ComponentLink1Description: Datasheet; ComponentLink1URL: http://www.ti.com/general/docs/lit/getliterature.tsp?genericPartNumber=UC1844A&fileType=pdf
footprint JG8 (DIP, 8-Leads, Row Spacing 7.62mm, Pitch 2.54mm, Body 9.6x6.7mm)
pins: 1 COMP, 2 VFB (in), 3 ISENSE (in), 4 RT/CT, 5 GND (power), 6 OUTPUT (out), 7 VCC (power), 8 VREF (out)

## UC1844AJ883B
designator U?
PWM Controller with Current Control, 50 % Duty Cycle, -55 to +125 degC, 8-pin CDIP (JG); PartNumber: UC1844AJ883B; Manufacturer: Texas Instruments; Duty Cycle(Max)(%): 50; Eco-Plan: TBD; Frequency(Max)(kHz): 450; Rating: Military; Regulated Outputs(#): 1; Topology: Boost, Flyback, Forward; UVLO Thresholds On/Off(V): 16/10; DatasheetVersion: SLUS224C; PackageVersion: revC, Aug-1996; PackageReference: JG8; PackageDescription: 8-Pin Ceramic Dual-In-Line Package, Row Spacing 7.62 mm, Pitch 2.54 mm; Control Method: Current; SubFamily: PWM Controller; Mounting Technology: Through Hole; ComponentLink1Description: Datasheet; ComponentLink1URL: http://www.ti.com/general/docs/lit/getliterature.tsp?genericPartNumber=UC1844A&fileType=pdf
footprint JG8 (DIP, 8-Leads, Row Spacing 7.62mm, Pitch 2.54mm, Body 9.6x6.7mm)
pins: 1 COMP, 2 VFB (in), 3 ISENSE (in), 4 RT/CT, 5 GND (power), 6 OUTPUT (out), 7 VCC (power), 8 VREF (out)

## UC1844AL883B
designator U?
PWM Controller with Current Control, 50 % Duty Cycle, -55 to +125 degC, 20-pin LCCC (FK); PartNumber: UC1844AL883B; Manufacturer: Texas Instruments; Duty Cycle(Max)(%): 50; Eco-Plan: TBD; Frequency(Max)(kHz): 450; Rating: Military; Regulated Outputs(#): 1; Topology: Boost, Flyback, Forward; UVLO Thresholds On/Off(V): 16/10; DatasheetVersion: SLUS224C; PackageVersion: revD, Jan-2011; PackageReference: FK20; PackageDescription: 20-Pin Leadless Ceramic Chip Carrier, 1.27 mm Pitch; Control Method: Current; SubFamily: PWM Controller; Mounting Technology: Surface Mount; Code_JEDEC: MS-004; ComponentLink1Description: Datasheet; ComponentLink1URL: http://www.ti.com/general/docs/lit/getliterature.tsp?genericPartNumber=UC1844A&fileType=pdf
footprint FK20_N (Leadless Chip Carrier, 20-Leads, Body 8.9x8.9mm, Pitch 1.27mm, IPC Medium Density)
footprint FK20_L (Leadless Chip Carrier, 20-Leads, Body 8.9x8.9mm, Pitch 1.27mm, IPC High Density)
footprint FK20_M (Leadless Chip Carrier, 20-Leads, Body 8.9x8.9mm, Pitch 1.27mm, IPC Low Density)
pins: 1 NC, 2 COMP (out), 3 NC, 4 NC, 5 VFB (in), 6 NC, 7 ISENSE (in), 8 NC, 9 NC, 10 RT/CT, 11 NC, 12 PWR GND (power), 13 GND (power), 14 NC, 15 OUTPUT (out), 16 NC, 17 VC (power), 18 VCC (power), 19 NC, 20 VREF (out)

## UC1844AMDREP
designator U?
PWM Controller with Current Control, 50 % Duty Cycle, -55 to +125 degC, 8-pin SOIC (D), Green (RoHS & no Sb/Br); PartNumber: UC1844AMDREP; Manufacturer: Texas Instruments; Duty Cycle(Max)(%): 50; Frequency(Max)(kHz): 500; Rating: HiRel Enhanced Product; Regulated Outputs(#): 1; UVLO Thresholds On/Off(V): 16/10; DatasheetVersion: SGLS134C; PackageVersion: revM, Jun-2011; PackageReference: D8; PackageDescription: 8-Pin Plastic Small Outline Integrated Circuit, 4.9 x 3.9 mm, Pitch 1.27 mm Pitch; Supplier 1: Arrow; Supplier Part Number 1: 29823790S6768762N7713; Supplier 2: Digi-Key; Supplier Part Number 2: 296-18183-2-ND; Supplier 3: Digi-Key; Supplier Part Number 3: 296-18183-1-ND; Supplier 4: Digi-Key; Supplier Part Number 4: 296-18183-6-ND; Supplier 5: Farnell; Supplier Part Number 5: 1755516; Supplier 6: Newark; Supplier Part Number 6: 83C7653; Supplier 7: Mouser; Supplier Part Number 7: 595-UC1844AMDREP; Control Method: Current; Eco-Plan: Green (RoHS & no Sb/Br); SubFamily: PWM Controller; Mounting Technology: Surface Mount; Code_JEDEC: MS-012AA; ComponentLink1Description: Datasheet; ComponentLink1URL: http://www.ti.com/general/docs/lit/getliterature.tsp?genericPartNumber=UC1844A-EP&fileType=pdf
footprint D8_N (SOIC, 8-Leads, Body 4.9x3.9mm, Pitch 1.27mm, IPC Medium Density)
footprint D8_L (SOIC, 8-Leads, Body 4.9x3.9mm, Pitch 1.27mm, IPC High Density)
footprint D8_M (SOIC, 8-Leads, Body 4.9x3.9mm, Pitch 1.27mm, IPC Low Density)
pins: 1 COMP, 2 VFB (in), 3 ISENSE (in), 4 RT/CT, 5 GND (power), 6 OUTPUT (out), 7 VCC (power), 8 VREF (out)

## UC1844J
designator U?
PWM Controller with Current Control, 50 % Duty Cycle, -55 to +125 degC, 8-pin CDIP (JG); PartNumber: UC1844J; Manufacturer: Texas Instruments; Duty Cycle(Max)(%): 50; Eco-Plan: TBD; Frequency(Max)(kHz): 450; Rating: Military; Regulated Outputs(#): 1; Topology: Boost, Flyback, Forward; UVLO Thresholds On/Off(V): 16/10; DatasheetVersion: SLUS223C; PackageVersion: revC, Aug-1996; PackageReference: JG8; PackageDescription: 8-Pin Ceramic Dual-In-Line Package, Row Spacing 7.62 mm, Pitch 2.54 mm; Control Method: Current; SubFamily: PWM Controller; Mounting Technology: Through Hole; ComponentLink1Description: Datasheet; ComponentLink1URL: http://www.ti.com/general/docs/lit/getliterature.tsp?genericPartNumber=UC1844&fileType=pdf
footprint JG8 (DIP, 8-Leads, Row Spacing 7.62mm, Pitch 2.54mm, Body 9.6x6.7mm)
pins: 1 COMP, 2 VFB (in), 3 ISENSE (in), 4 RT/CT, 5 GROUND (power), 6 OUTPUT (out), 7 VCC (power), 8 VREF (out)

## UC1844J883B
designator U?
PWM Controller with Current Control, 50 % Duty Cycle, -55 to +125 degC, 8-pin CDIP (JG); PartNumber: UC1844J883B; Manufacturer: Texas Instruments; Duty Cycle(Max)(%): 50; Eco-Plan: TBD; Frequency(Max)(kHz): 450; Rating: Military; Regulated Outputs(#): 1; Topology: Boost, Flyback, Forward; UVLO Thresholds On/Off(V): 16/10; DatasheetVersion: SLUS223C; PackageVersion: revC, Aug-1996; PackageReference: JG8; PackageDescription: 8-Pin Ceramic Dual-In-Line Package, Row Spacing 7.62 mm, Pitch 2.54 mm; Control Method: Current; SubFamily: PWM Controller; Mounting Technology: Through Hole; ComponentLink1Description: Datasheet; ComponentLink1URL: http://www.ti.com/general/docs/lit/getliterature.tsp?genericPartNumber=UC1844&fileType=pdf
footprint JG8 (DIP, 8-Leads, Row Spacing 7.62mm, Pitch 2.54mm, Body 9.6x6.7mm)
pins: 1 COMP, 2 VFB (in), 3 ISENSE (in), 4 RT/CT, 5 GROUND (power), 6 OUTPUT (out), 7 VCC (power), 8 VREF (out)

## UC1844L883B
designator U?
PWM Controller with Current Control, 50 % Duty Cycle, -55 to +125 degC, 20-pin LCCC (FK); PartNumber: UC1844L883B; Manufacturer: Texas Instruments; Duty Cycle(Max)(%): 50; Eco-Plan: TBD; Frequency(Max)(kHz): 450; Rating: Military; Regulated Outputs(#): 1; Topology: Boost, Flyback, Forward; UVLO Thresholds On/Off(V): 16/10; DatasheetVersion: SLUS223C; PackageVersion: revD, Jan-2011; PackageReference: FK20; PackageDescription: 20-Pin Leadless Ceramic Chip Carrier, 1.27 mm Pitch; Control Method: Current; SubFamily: PWM Controller; Mounting Technology: Surface Mount; Code_JEDEC: MS-004; ComponentLink1Description: Datasheet; ComponentLink1URL: http://www.ti.com/general/docs/lit/getliterature.tsp?genericPartNumber=UC1844&fileType=pdf
footprint FK20_N (Leadless Chip Carrier, 20-Leads, Body 8.9x8.9mm, Pitch 1.27mm, IPC Medium Density)
footprint FK20_L (Leadless Chip Carrier, 20-Leads, Body 8.9x8.9mm, Pitch 1.27mm, IPC High Density)
footprint FK20_M (Leadless Chip Carrier, 20-Leads, Body 8.9x8.9mm, Pitch 1.27mm, IPC Low Density)
pins: 1 NC, 2 COMP (out), 3 NC, 4 NC, 5 VFB (in), 6 NC, 7 ISENSE (in), 8 NC, 9 NC, 10 RT/CT, 11 NC, 12 PWR GND (power), 13 GROUND (power), 14 NC, 15 OUTPUT (out), 16 NC, 17 VC (power), 18 VCC (power), 19 NC, 20 VREF (out)

## UC1845AJ
designator U?
PWM Controller with Current Control, 50 % Duty Cycle, -55 to +125 degC, 8-pin CDIP (JG); PartNumber: UC1845AJ; Manufacturer: Texas Instruments; Duty Cycle(Max)(%): 50; Eco-Plan: TBD; Frequency(Max)(kHz): 450; Rating: Military; Regulated Outputs(#): 1; Topology: Boost, Flyback, Forward; UVLO Thresholds On/Off(V): 8.4/7.6; PackageVersion: revC, Aug-1996; PackageReference: JG8; PackageDescription: 8-Pin Ceramic Dual-In-Line Package, Row Spacing 7.62 mm, Pitch 2.54 mm; Control Method: Current; SubFamily: PWM Controller; Mounting Technology: Through Hole; ComponentLink1Description: Datasheet; ComponentLink1URL: http://www.ti.com/general/docs/lit/getliterature.tsp?genericPartNumber=UC1845A&fileType=pdf
footprint JG8 (DIP, 8-Leads, Row Spacing 7.62mm, Pitch 2.54mm, Body 9.6x6.7mm)
pins: 1 COMP, 2 VFB (in), 3 ISENSE (in), 4 RT/CT, 5 GND (power), 6 OUTPUT (out), 7 VCC (power), 8 VREF (out)

## UC1845AJ883B
designator U?
PWM Controller with Current Control, 50 % Duty Cycle, -55 to +125 degC, 8-pin CDIP (JG); PartNumber: UC1845AJ883B; Manufacturer: Texas Instruments; Duty Cycle(Max)(%): 50; Eco-Plan: TBD; Frequency(Max)(kHz): 450; Rating: Military; Regulated Outputs(#): 1; Topology: Boost, Flyback, Forward; UVLO Thresholds On/Off(V): 8.4/7.6; PackageVersion: revC, Aug-1996; PackageReference: JG8; PackageDescription: 8-Pin Ceramic Dual-In-Line Package, Row Spacing 7.62 mm, Pitch 2.54 mm; Control Method: Current; SubFamily: PWM Controller; Mounting Technology: Through Hole; ComponentLink1Description: Datasheet; ComponentLink1URL: http://www.ti.com/general/docs/lit/getliterature.tsp?genericPartNumber=UC1845A&fileType=pdf
footprint JG8 (DIP, 8-Leads, Row Spacing 7.62mm, Pitch 2.54mm, Body 9.6x6.7mm)
pins: 1 COMP, 2 VFB (in), 3 ISENSE (in), 4 RT/CT, 5 GND (power), 6 OUTPUT (out), 7 VCC (power), 8 VREF (out)

## UC1845AL883B
designator U?
PWM Controller with Current Control, 50 % Duty Cycle, -55 to +125 degC, 20-pin LCCC (FK); PartNumber: UC1845AL883B; Manufacturer: Texas Instruments; Duty Cycle(Max)(%): 50; Eco-Plan: TBD; Frequency(Max)(kHz): 450; Rating: Military; Regulated Outputs(#): 1; Topology: Boost, Flyback, Forward; UVLO Thresholds On/Off(V): 8.4/7.6; PackageVersion: revD, Jan-2011; PackageReference: FK20; PackageDescription: 20-Pin Leadless Ceramic Chip Carrier, 1.27 mm Pitch; Control Method: Current; SubFamily: PWM Controller; Mounting Technology: Surface Mount; Code_JEDEC: MS-004; ComponentLink1Description: Datasheet; ComponentLink1URL: http://www.ti.com/general/docs/lit/getliterature.tsp?genericPartNumber=UC1845A&fileType=pdf
footprint FK20_N (Leadless Chip Carrier, 20-Leads, Body 8.9x8.9mm, Pitch 1.27mm, IPC Medium Density)
footprint FK20_L (Leadless Chip Carrier, 20-Leads, Body 8.9x8.9mm, Pitch 1.27mm, IPC High Density)
footprint FK20_M (Leadless Chip Carrier, 20-Leads, Body 8.9x8.9mm, Pitch 1.27mm, IPC Low Density)
pins: 1 NC, 2 COMP (out), 3 NC, 4 NC, 5 VFB (in), 6 NC, 7 ISENSE (in), 8 NC, 9 NC, 10 RT/CT, 11 NC, 12 PWR GND (power), 13 GND (power), 14 NC, 15 OUTPUT (out), 16 NC, 17 VC (power), 18 VCC (power), 19 NC, 20 VREF (out)

## UC1845AMDREP
designator U?
PWM Controller with Current Control, 50 % Duty Cycle, -55 to +125 degC, 8-pin SOIC (D), Green (RoHS & no Sb/Br); PartNumber: UC1845AMDREP; Manufacturer: Texas Instruments; Duty Cycle(Max)(%): 50; Frequency(Max)(kHz): 500; Rating: HiRel Enhanced Product; Regulated Outputs(#): 1; UVLO Thresholds On/Off(V): 8.5/7.9; DatasheetVersion: SGLS134C; PackageVersion: revM, Jun-2011; PackageReference: D8; PackageDescription: 8-Pin Plastic Small Outline Integrated Circuit, 4.9 x 3.9 mm, Pitch 1.27 mm Pitch; Supplier 1: Arrow; Supplier Part Number 1: 38811584S6964941N2415; Supplier 2: Digi-Key; Supplier Part Number 2: 296-18184-2-ND; Supplier 3: Digi-Key; Supplier Part Number 3: 296-18184-1-ND; Supplier 4: Digi-Key; Supplier Part Number 4: 296-18184-6-ND; Supplier 5: Newark; Supplier Part Number 5: 46M1389; Supplier 6: Mouser; Supplier Part Number 6: 595-UC1845AMDREP; Control Method: Current; Eco-Plan: Green (RoHS & no Sb/Br); SubFamily: PWM Controller; Mounting Technology: Surface Mount; Code_JEDEC: MS-012AA; ComponentLink1Description: Datasheet; ComponentLink1URL: http://www.ti.com/general/docs/lit/getliterature.tsp?genericPartNumber=UC1845A-EP&fileType=pdf
footprint D8_N (SOIC, 8-Leads, Body 4.9x3.9mm, Pitch 1.27mm, IPC Medium Density)
footprint D8_L (SOIC, 8-Leads, Body 4.9x3.9mm, Pitch 1.27mm, IPC High Density)
footprint D8_M (SOIC, 8-Leads, Body 4.9x3.9mm, Pitch 1.27mm, IPC Low Density)
pins: 1 COMP, 2 VFB (in), 3 ISENSE (in), 4 RT/CT, 5 GND (power), 6 OUTPUT (out), 7 VCC (power), 8 VREF (out)

## UC1845AMDREPG4
designator U?
PWM Controller with Current Control, 50 % Duty Cycle, -55 to +125 degC, 8-pin SOIC (D), Green (RoHS & no Sb/Br); PartNumber: UC1845AMDREPG4; Manufacturer: Texas Instruments; Duty Cycle(Max)(%): 50; Frequency(Max)(kHz): 500; Rating: HiRel Enhanced Product; Regulated Outputs(#): 1; UVLO Thresholds On/Off(V): 8.5/7.9; DatasheetVersion: SGLS134C; PackageVersion: revM, Jun-2011; PackageReference: D8; PackageDescription: 8-Pin Plastic Small Outline Integrated Circuit, 4.9 x 3.9 mm, Pitch 1.27 mm Pitch; Supplier 1: Digi-Key; Supplier Part Number 1: UC1845AMDREPG4-ND; Supplier 2: Newark; Supplier Part Number 2: 55R7750; Supplier 3: Mouser; Supplier Part Number 3: 595-UC1845AMDREPG4; Control Method: Current; Eco-Plan: Green (RoHS & no Sb/Br); SubFamily: PWM Controller; Mounting Technology: Surface Mount; Code_JEDEC: MS-012AA; ComponentLink1Description: Datasheet; ComponentLink1URL: http://www.ti.com/general/docs/lit/getliterature.tsp?genericPartNumber=UC1845A-EP&fileType=pdf
footprint D8_N (SOIC, 8-Leads, Body 4.9x3.9mm, Pitch 1.27mm, IPC Medium Density)
footprint D8_L (SOIC, 8-Leads, Body 4.9x3.9mm, Pitch 1.27mm, IPC High Density)
footprint D8_M (SOIC, 8-Leads, Body 4.9x3.9mm, Pitch 1.27mm, IPC Low Density)
pins: 1 COMP, 2 VFB (in), 3 ISENSE (in), 4 RT/CT, 5 GND (power), 6 OUTPUT (out), 7 VCC (power), 8 VREF (out)

## UC1845J
designator U?
PWM Controller with Current Control, 50 % Duty Cycle, -55 to +125 degC, 8-pin CDIP (JG); PartNumber: UC1845J; Manufacturer: Texas Instruments; Duty Cycle(Max)(%): 50; Eco-Plan: TBD; Frequency(Max)(kHz): 450; Rating: Military; Regulated Outputs(#): 1; Topology: Boost, Flyback, Forward; UVLO Thresholds On/Off(V): 8.4/7.6; DatasheetVersion: SLUS223C; PackageVersion: revC, Aug-1996; PackageReference: JG8; PackageDescription: 8-Pin Ceramic Dual-In-Line Package, Row Spacing 7.62 mm, Pitch 2.54 mm; Control Method: Current; SubFamily: PWM Controller; Mounting Technology: Through Hole; ComponentLink1Description: Datasheet; ComponentLink1URL: http://www.ti.com/general/docs/lit/getliterature.tsp?genericPartNumber=UC1845&fileType=pdf
footprint JG8 (DIP, 8-Leads, Row Spacing 7.62mm, Pitch 2.54mm, Body 9.6x6.7mm)
pins: 1 COMP, 2 VFB (in), 3 ISENSE (in), 4 RT/CT, 5 GROUND (power), 6 OUTPUT (out), 7 VCC (power), 8 VREF (out)

## UC1845J883B
designator U?
PWM Controller with Current Control, 50 % Duty Cycle, -55 to +125 degC, 8-pin CDIP (JG); PartNumber: UC1845J883B; Manufacturer: Texas Instruments; Duty Cycle(Max)(%): 50; Eco-Plan: TBD; Frequency(Max)(kHz): 450; Rating: Military; Regulated Outputs(#): 1; Topology: Boost, Flyback, Forward; UVLO Thresholds On/Off(V): 8.4/7.6; DatasheetVersion: SLUS223C; PackageVersion: revC, Aug-1996; PackageReference: JG8; PackageDescription: 8-Pin Ceramic Dual-In-Line Package, Row Spacing 7.62 mm, Pitch 2.54 mm; Control Method: Current; SubFamily: PWM Controller; Mounting Technology: Through Hole; ComponentLink1Description: Datasheet; ComponentLink1URL: http://www.ti.com/general/docs/lit/getliterature.tsp?genericPartNumber=UC1845&fileType=pdf
footprint JG8 (DIP, 8-Leads, Row Spacing 7.62mm, Pitch 2.54mm, Body 9.6x6.7mm)
pins: 1 COMP, 2 VFB (in), 3 ISENSE (in), 4 RT/CT, 5 GROUND (power), 6 OUTPUT (out), 7 VCC (power), 8 VREF (out)

## UC1845L
designator U?
PWM Controller with Current Control, 50 % Duty Cycle, -55 to +125 degC, 20-pin LCCC (FK); PartNumber: UC1845L; Manufacturer: Texas Instruments; Duty Cycle(Max)(%): 50; Eco-Plan: TBD; Frequency(Max)(kHz): 450; Rating: Military; Regulated Outputs(#): 1; Topology: Boost, Flyback, Forward; UVLO Thresholds On/Off(V): 8.4/7.6; DatasheetVersion: SLUS223C; PackageVersion: revD, Jan-2011; PackageReference: FK20; PackageDescription: 20-Pin Leadless Ceramic Chip Carrier, 1.27 mm Pitch; Control Method: Current; SubFamily: PWM Controller; Mounting Technology: Surface Mount; Code_JEDEC: MS-004; ComponentLink1Description: Datasheet; ComponentLink1URL: http://www.ti.com/general/docs/lit/getliterature.tsp?genericPartNumber=UC1845&fileType=pdf
footprint FK20_N (Leadless Chip Carrier, 20-Leads, Body 8.9x8.9mm, Pitch 1.27mm, IPC Medium Density)
footprint FK20_L (Leadless Chip Carrier, 20-Leads, Body 8.9x8.9mm, Pitch 1.27mm, IPC High Density)
footprint FK20_M (Leadless Chip Carrier, 20-Leads, Body 8.9x8.9mm, Pitch 1.27mm, IPC Low Density)
pins: 1 NC, 2 COMP (out), 3 NC, 4 NC, 5 VFB (in), 6 NC, 7 ISENSE (in), 8 NC, 9 NC, 10 RT/CT, 11 NC, 12 PWR GND (power), 13 GROUND (power), 14 NC, 15 OUTPUT (out), 16 NC, 17 VC (power), 18 VCC (power), 19 NC, 20 VREF (out)

## UC1845L883B
designator U?
PWM Controller with Current Control, 50 % Duty Cycle, -55 to +125 degC, 20-pin LCCC (FK); PartNumber: UC1845L883B; Manufacturer: Texas Instruments; Duty Cycle(Max)(%): 50; Eco-Plan: TBD; Frequency(Max)(kHz): 450; Rating: Military; Regulated Outputs(#): 1; Topology: Boost, Flyback, Forward; UVLO Thresholds On/Off(V): 8.4/7.6; DatasheetVersion: SLUS223C; PackageVersion: revD, Jan-2011; PackageReference: FK20; PackageDescription: 20-Pin Leadless Ceramic Chip Carrier, 1.27 mm Pitch; Control Method: Current; SubFamily: PWM Controller; Mounting Technology: Surface Mount; Code_JEDEC: MS-004; ComponentLink1Description: Datasheet; ComponentLink1URL: http://www.ti.com/general/docs/lit/getliterature.tsp?genericPartNumber=UC1845&fileType=pdf
footprint FK20_N (Leadless Chip Carrier, 20-Leads, Body 8.9x8.9mm, Pitch 1.27mm, IPC Medium Density)
footprint FK20_L (Leadless Chip Carrier, 20-Leads, Body 8.9x8.9mm, Pitch 1.27mm, IPC High Density)
footprint FK20_M (Leadless Chip Carrier, 20-Leads, Body 8.9x8.9mm, Pitch 1.27mm, IPC Low Density)
pins: 1 NC, 2 COMP (out), 3 NC, 4 NC, 5 VFB (in), 6 NC, 7 ISENSE (in), 8 NC, 9 NC, 10 RT/CT, 11 NC, 12 PWR GND (power), 13 GROUND (power), 14 NC, 15 OUTPUT (out), 16 NC, 17 VC (power), 18 VCC (power), 19 NC, 20 VREF (out)